# EAGLE library part MC34063ECD (library power)
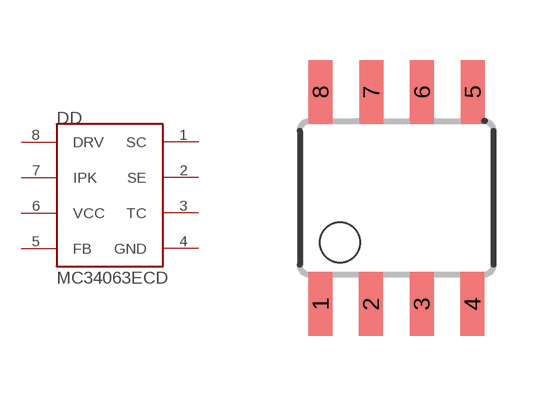
[diagram p0: symbol with the pads of SO8; footprint SO8]

Designator prefix DD

## MC34063ECD  [SO8]
1  SC
2  SE
3  TC
4  GND  pwr
5  FB
6  VCC  pwr
7  IPK
8  DRV

## Footprint SO8 (pad centres in mm)
SO8
smd 0.6 x 1.6: 1 -1.905,-2.654; 2 -0.645,-2.654; 3 0.625,-2.654; 4 1.895,-2.654; 5 1.905,2.654; 6 0.635,2.654; 7 -0.635,2.654; 8 -1.905,2.654